# EAGLE library part ARM_JTAG (library rgb_cube)
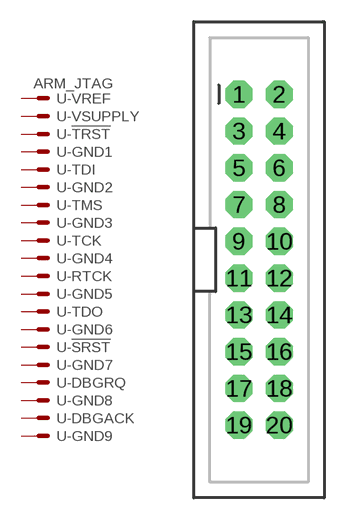
[diagram p35: symbol with the pads of HEADER_2.54MM-2X10-SHROUDED_LOCK; footprint HEADER_2.54MM-2X10-SHROUDED_LOCK]

Designator prefix -; gates -VREF=KV -VSUPPLY=K -!TRST=K -GND1=K -TDI=K -GND2=K -TMS=K -GND3=K -TCK=K -GND4=K -RTCK=K -GND5=K -TDO=K -GND6=K -!SRST=K -GND7=K -DBGRQ=K -GND8=K -DBGACK=K -GND9=K

## ARM_JTAG  [HEADER_2.54MM-2X10-SHROUDED_LOCK]
1  -VREF:S  pas
2  -VSUPPLY:S  pas
3  -!TRST:S  pas
4  -GND1:S  pas
5  -TDI:S  pas
6  -GND2:S  pas
7  -TMS:S  pas
8  -GND3:S  pas
9  -TCK:S  pas
10  -GND4:S  pas
11  -RTCK:S  pas
12  -GND5:S  pas
13  -TDO:S  pas
14  -GND6:S  pas
15  -!SRST:S  pas
16  -GND7:S  pas
17  -DBGRQ:S  pas
18  -GND8:S  pas
19  -DBGACK:S  pas
20  -GND9:S  pas

## Footprint HEADER_2.54MM-2X10-SHROUDED_LOCK (pad centres in mm)
drill 1.016 pad 1.88 octagon: 1 -1.397,11.43; 2 1.397,11.43; 3 -1.397,8.89; 4 1.397,8.89; 5 -1.397,6.35; 6 1.397,6.35; 7 -1.397,3.81; 8 1.397,3.81; 9 -1.397,1.27; 10 1.397,1.27; 11 -1.397,-1.27; 12 1.397,-1.27; 13 -1.397,-3.81; 14 1.397,-3.81; 15 -1.397,-6.35; 16 1.397,-6.35; 17 -1.397,-8.89; 18 1.397,-8.89; 19 -1.397,-11.43; 20 1.397,-11.43